# Altium schematic symbol library Reguladores.SchLib: 2 symbols
Pins are listed as number, name and electrical type; pins without a type are passive.

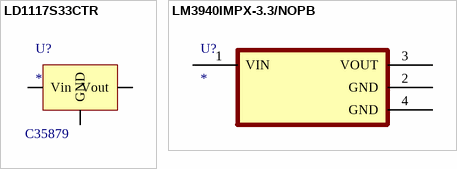
[diagram p0: symbols LD1117S33CTR to LM3940IMPX-3.3/NOPB]

## LD1117S33CTR
designator U?  LCSC: C35879
LD1117 Series 3.3 V 1300 mA Fixed Output Positive Voltage LDO Regulator- SOT-223; Manufacturer: STMicroelectronics; Manufacturer Part Number: LD1117S33CTR; Accuracy: 1%; Dropout Voltage: 1.1V; Input Bias Current: 5mA; Max Supply Voltage: 15V; Max Junction Temperature (Tj): 125°C; Max Output current: 1.3A; Max Output Voltage: 3.3V; Max Power Dissipation: 12W; Min Input Voltage: 4.75V; Number of Channels: 1; Output Current: 800mA; Voltage Tolerance: 2%; Supplier: DigiKey; Supplier Part Number: 497-1241-1-ND; RoHS: Compliant; Category: LDO Voltage Regulators; Stock: 27162; Pricing: 1=0,32, 10=0,223, 25=0,1984, 100=0,1708, 250=0,15768, 500=0,14974, 1000=0,14321 (USD); Case/Package: SOT-223; China RoHS: Compliant; Contact Plating: Tin; Height: 1.8mm; Height - Seated (Max): 1.9mm; Lead Free: Lead Free; Length: 6.5mm; Lifecycle Status: Production; Max Operating Temperature: 125°C; Min Operating Temperature: -40°C; Min Output Voltage: 3.3V; Min Supply Voltage: 3.3V; Mounting Technology: Surface Mount; Nominal Output Voltage: 3.3V; Nominal Supply Current: 5mA; Number of Circuits: 1; Number of Outputs: 1; Pins: 3; Number of Regulators: 1; Number of Terminals: 4; Output Type: Fixed; Output Voltage: 3.3V; Output Voltage Accuracy: 1%; Packaging: Tape and Reel; Polarity: Positive; Power Dissipation: 12W; Quiescent Current: 5mA; Radiation Hardening: No; REACH SVHC: Yes; Schedule B: 8542390000, 8542390000|8542390000|8542390000|8542390000|8542390000|8542390000|8542390000|8542390000|8542390000|8542390000|8542390000|8542390000|8542390000|8542390000|8542390000|8542390000|8542390000|8542390000|8542390000|8542390000|8542390000|8542390000|8542390000|85; Terminal Pitch: 2.3mm; Termination: SMD/SMT; Weight: 4.535924g; Width: 3.5mm; ComponentLink1URL: https://datasheet.octopart.com:443/LD1117S33CTR-STMicroelectronics-datasheet-21631343.pdf?src-supplier=Augswan; ComponentLink1Description: https://datasheet.octopart.com:443/LD1117S33CTR-STMicroelectronics-datasheet-21631343.pdf?src-supplier=Augswan; ComponentLink2URL: https://datasheet.octopart.com:443/LD1117S33CTR-STMicroelectronics-datasheet-12512609.pdf?src-supplier=SOS+electronic; ComponentLink2Description: https://datasheet.octopart.com:443/LD1117S33CTR-STMicroelectronics-datasheet-12512609.pdf?src-supplier=SOS+electronic; ComponentLink3URL: https://datasheet.octopart.com:443/LD1117S33CTR-STMicroelectronics-datasheet-10835789.pdf?src-supplier=Upverter; ComponentLink3Description: https://datasheet.octopart.com:443/LD1117S33CTR-STMicroelectronics-datasheet-10835789.pdf?src-supplier=Upverter; ComponentLink4URL: https://datasheet.octopart.com:443/LD1117S33CTR-STMicroelectronics-datasheet-10544930.pdf?src-supplier=Upverter; ComponentLink4Description: https://datasheet.octopart.com:443/LD1117S33CTR-STMicroelectronics-datasheet-10544930.pdf?src-supplier=Upverter; ComponentLink5URL: https://datasheet.octopart.com:443/LD1117S33CTR-STMicroelectronics-datasheet-10390305.pdf?src-supplier=Upverter; ComponentLink5Description: https://datasheet.octopart.com:443/LD1117S33CTR-STMicroelectronics-datasheet-10390305.pdf?src-supplier=Upverter; ComponentLink6URL: https://datasheet.octopart.com:443/LD1117S33CTR-STMicroelectronics-datasheet-8082140.pdf?src-supplier=Nu+Horizons; ComponentLink6Description: https://datasheet.octopart.com:443/LD1117S33CTR-STMicroelectronics-datasheet-8082140.pdf?src-supplier=Nu+Horizons; ComponentLink7URL: https://datasheet.octopart.com:443/LD1117S33CTR-STMicroelectronics-datasheet-5314031.pdf?src-supplier=Nu+Horizons; ComponentLink7Description: https://datasheet.octopart.com:443/LD1117S33CTR-STMicroelectronics-datasheet-5314031.pdf?src-supplier=Nu+Horizons; ComponentLink8URL: https://datasheet.octopart.com:443/LD1117S33CTR-STMicroelectronics-datasheet-502396.pdf?src-supplier=Nu+Horizons; ComponentLink8Description: https://datasheet.octopart.com:443/LD1117S33CTR-STMicroelectronics-datasheet-502396.pdf?src-supplier=Nu+Horizons; ComponentLink9URL: https://datasheet.octopart.com:443/LD1117S33CTR-STMicroelectronics-datasheet-109521.pdf?src-supplier=Farnell; ComponentLink9Description: https://datasheet.octopart.com:443/LD1117S33CTR-STMicroelectronics-datasheet-109521.pdf?src-supplier=Farnell; ComponentLink10URL: https://datasheet.octopart.com:443/LD1117S33CTR-STMicroelectronics-datasheet-9746.pdf?src-supplier=Newark; ComponentLink10Description: https://datasheet.octopart.com:443/LD1117S33CTR-STMicroelectronics-datasheet-9746.pdf?src-supplier=Newark; ComponentLink11URL: https://datasheet.octopart.com:443/LD1117S33CTR-STMicroelectronics-datasheet-141402766.pdf?src-supplier=Burklin+Elektronik; ComponentLink11Description: https://datasheet.octopart.com:443/LD1117S33CTR-STMicroelectronics-datasheet-141402766.pdf?src-supplier=Burklin+Elektronik; ComponentLink12URL: https://datasheet.octopart.com:443/LD1117S33CTR-STMicroelectronics-datasheet-14168930.pdf?src-supplier=iiiC; ComponentLink12Description: https://datasheet.octopart.com:443/LD1117S33CTR-STMicroelectronics-datasheet-14168930.pdf?src-supplier=iiiC; ComponentLink13URL: https://datasheet.octopart.com:443/LD1117S33CTR-STMicroelectronics-datasheet-8710537.pdf?src-supplier=element14; ComponentLink13Description: https://datasheet.octopart.com:443/LD1117S33CTR-STMicroelectronics-datasheet-8710537.pdf?src-supplier=element14; ComponentLink14URL: https://datasheet.octopart.com:443/LD1117S33CTR-STMicroelectronics-datasheet-8453752.pdf?src-supplier=element14; ComponentLink14Description: https://datasheet.octopart.com:443/LD1117S33CTR-STMicroelectronics-datasheet-8453752.pdf?src-supplier=element14; ComponentLink15URL: https://datasheet.octopart.com:443/LD1117S33CTR-STMicroelectronics-datasheet-8741331.pdf?src-supplier=Jameco; ComponentLink15Description: https://datasheet.octopart.com:443/LD1117S33CTR-STMicroelectronics-datasheet-8741331.pdf?src-supplier=Jameco; ComponentLink16URL: https://datasheet.octopart.com:443/LD1117S33CTR-STMicroelectronics-datasheet-113917.pdf?src-supplier=Sierra+IC; ComponentLink16Description: https://datasheet.octopart.com:443/LD1117S33CTR-STMicroelectronics-datasheet-113917.pdf?src-supplier=Sierra+IC
footprint regulador
pins: 1 Vin, 2 GND, 3 Vout

## LM3940IMPX-3.3/NOPB
designator U?
1-A, low-dropout voltage regulator for 5-V to 3.3-V conversion 4-SOT-223 -40 to 125; Manufacturer: Texas Instruments; Manufacturer Part Number: LM3940IMPX-3.3/NOPB; Manufacturer Lifecycle Status: ACTIVE; Accuracy: 2.5%; Dropout Voltage: 500mV; Max Supply Voltage: 7.5V; Max Junction Temperature (Tj): 125°C; Max Output current: 1A; Min Input Voltage: 4.5V; Number of Channels: 1; Output Type: Fixed; Output Voltage: 3.3V; Polarity: Positive; Quiescent Current: 15mA; Supplier: Arrow Electronics; Supplier Part Number: LM3940IMPX-3.3/NOPB; RoHS: Compliant; Category: LDO Voltage Regulators; Stock: 4000; Pricing: 2000=0,8378, 4000=0,805 (USD); Case/Package: SOT-223; Contact Plating: Tin; Height: 1.8mm; Lead Free: Lead Free; Length: 6.5mm; Lifecycle Status: Production; Max Operating Temperature: 125°C; Min Operating Temperature: -40°C; Min Supply Voltage: 4.5V; Mounting Technology: Surface Mount; Number of Outputs: 1; Pins: 4; Number of Regulators: 1; Output Current: 1A; Radiation Hardening: No; Schedule B: 8542390000, 8542390000|8542390000|8542390000|8542390000|8542390000; Thickness: 1.6mm; Width: 3.5mm; ComponentLink1URL: https://datasheet.octopart.com:443/LM3940IMPX-3.3-NOPB-Texas-Instruments-datasheet-37536452.pdf?src-supplier=Newark; ComponentLink1Description: https://datasheet.octopart.com:443/LM3940IMPX-3.3-NOPB-Texas-Instruments-datasheet-37536452.pdf?src-supplier=Newark; ComponentLink2URL: https://octopart.com:443/opatz8j6/c1?t=rvScTgIK7vzGzAkcs3Wrvb9UenW83nfYWqCYLRye1rllSdu9Beb0mrJ0jD3mxUE6L-G7r_WbA31oL6rbbcgGDwhvoCgJFhaPP2VcxwGiGkxkzw7jExuaO0qB7YjUEg7HO7wm7e8udALi6wjH3PcZfiOv8hqrGiPpD-c1dsCFFWiVgt4LsZWsN__Uwh1l8CkFPX6hFz62SNLgqesLCarricQSPLGZ_8-1w0Pi7AlFfsyeMSiSWLufX8N49_LiouBqoH5-Z8RZTzh6Rrh-S45GR5BvH6gVbYU3j4QdNB2550tcQlHMcE_JD-4k9aWhtYDm6rSzGkys3-qF4FGYb97CU4akCkkKKwscATKRo0mvSF3ub_RgSZQsh-CWTHPIweVGU4n0TA&src-supplier=Texas+Instruments; ComponentLink2Description: https://octopart.com:443/opatz8j6/c1?t=rvScTgIK7vzGzAkcs3Wrvb9UenW83nfYWqCYLRye1rllSdu9Beb0mrJ0jD3mxUE6L-G7r_WbA31oL6rbbcgGDwhvoCgJFhaPP2VcxwGiGkxkzw7jExuaO0qB7YjUEg7HO7wm7e8udALi6wjH3PcZfiOv8hqrGiPpD-c1dsCFFWiVgt4LsZWsN__Uwh1l8CkFPX6hFz62SNLgqesLCarricQSPLGZ_8-1w0Pi7AlFfsyeMSiSWLufX8N49_LiouBqoH5-Z8RZTzh6Rrh-S45GR5BvH6gVbYU3j4QdNB2550tcQlHMcE_JD-4k9aWhtYDm6rSzGkys3-qF4FGYb97CU4akCkkKKwscATKRo0mvSF3ub_RgSZQsh-CWTHPIweVGU4n0TA&src-supplier=Texas+Instruments; ComponentLink3URL: https://datasheet.octopart.com:443/LM3940IMPX-3.3-NOPB-Texas-Instruments-datasheet-32868818.pdf?src-supplier=Texas+Instruments; ComponentLink3Description: https://datasheet.octopart.com:443/LM3940IMPX-3.3-NOPB-Texas-Instruments-datasheet-32868818.pdf?src-supplier=Texas+Instruments; ComponentLink4URL: https://datasheet.octopart.com:443/LM3940IMPX-3.3-NOPB-Texas-Instruments-datasheet-14540343.pdf?src-supplier=Texas+Instruments; ComponentLink4Description: https://datasheet.octopart.com:443/LM3940IMPX-3.3-NOPB-Texas-Instruments-datasheet-14540343.pdf?src-supplier=Texas+Instruments; ComponentLink5URL: https://datasheet.octopart.com:443/LM3940IMPX-3.3/NOPB-Texas-Instruments-datasheet-12544179.pdf?src-supplier=Texas+Instruments; ComponentLink5Description: https://datasheet.octopart.com:443/LM3940IMPX-3.3/NOPB-Texas-Instruments-datasheet-12544179.pdf?src-supplier=Texas+Instruments; ComponentLink6URL: https://datasheet.octopart.com:443/LM3940IMPX-3.3/NOPB-Texas-Instruments-datasheet-10846469.pdf?src-supplier=Texas+Instruments; ComponentLink6Description: https://datasheet.octopart.com:443/LM3940IMPX-3.3/NOPB-Texas-Instruments-datasheet-10846469.pdf?src-supplier=Texas+Instruments; ComponentLink7URL: https://sigma.octopart.com:443/49253063/technical_drawing/Texas-Instruments-LM3940IMPX-3.3-NOPB.pdf?src-supplier=Texas+Instruments; ComponentLink7Description: https://sigma.octopart.com:443/49253063/technical_drawing/Texas-Instruments-LM3940IMPX-3.3-NOPB.pdf?src-supplier=Texas+Instruments; ComponentLink8URL: https://datasheet.octopart.com:443/LM3940IMPX-3.3-NOPB-Texas-Instruments-datasheet-159115208.pdf?src-supplier=Augswan; ComponentLink8Description: https://datasheet.octopart.com:443/LM3940IMPX-3.3-NOPB-Texas-Instruments-datasheet-159115208.pdf?src-supplier=Augswan; ComponentLink9URL: https://datasheet.octopart.com:443/LM3940IMPX-3.3-NOPB-Texas-Instruments-datasheet-62292511.pdf?src-supplier=Farnell; ComponentLink9Description: https://datasheet.octopart.com:443/LM3940IMPX-3.3-NOPB-Texas-Instruments-datasheet-62292511.pdf?src-supplier=Farnell; ComponentLink10URL: https://datasheet.octopart.com:443/LM3940IMPX-3.3-NOPB-Texas-Instruments-datasheet-68295779.pdf?src-supplier=Farnell; ComponentLink10Description: https://datasheet.octopart.com:443/LM3940IMPX-3.3-NOPB-Texas-Instruments-datasheet-68295779.pdf?src-supplier=Farnell; ComponentLink11URL: https://datasheet.octopart.com:443/LM3940IMPX-3.3-NOPB-Texas-Instruments-datasheet-165804071.pdf?src-supplier=LCSC; ComponentLink11Description: https://datasheet.octopart.com:443/LM3940IMPX-3.3-NOPB-Texas-Instruments-datasheet-165804071.pdf?src-supplier=LCSC; ComponentLink12URL: https://datasheet.octopart.com:443/LM3940IMPX-3.3-NOPB-Texas-Instruments-datasheet-137316104.pdf?src-supplier=Future+Electronics; ComponentLink12Description: https://datasheet.octopart.com:443/LM3940IMPX-3.3-NOPB-Texas-Instruments-datasheet-137316104.pdf?src-supplier=Future+Electronics; ComponentLink13URL: https://datasheet.octopart.com:443/LM3940IMPX-3.3/NOPB-National-Semiconductor-datasheet-128782.pdf?src-supplier=Future+Electronics; ComponentLink13Description: https://datasheet.octopart.com:443/LM3940IMPX-3.3/NOPB-National-Semiconductor-datasheet-128782.pdf?src-supplier=Future+Electronics; ComponentLink14URL: https://datasheet.octopart.com:443/LM3940IMPX-3.3-NOPB-Texas-Instruments-datasheet-8441755.pdf?src-supplier=Jameco; ComponentLink14Description: https://datasheet.octopart.com:443/LM3940IMPX-3.3-NOPB-Texas-Instruments-datasheet-8441755.pdf?src-supplier=Jameco; ComponentLink15URL: http://sigma.octopart.com:80/reach_statement/Texas-Instruments-company-64.pdf?src-supplier=Compliance+Statements; ComponentLink15Description: http://sigma.octopart.com:80/reach_statement/Texas-Instruments-company-64.pdf?src-supplier=Compliance+Statements; ComponentLink16URL: http://sigma.octopart.com:80/conflict_mineral_statement/Texas-Instruments-company-63.pdf?src-supplier=Compliance+Statements; ComponentLink16Description: http://sigma.octopart.com:80/conflict_mineral_statement/Texas-Instruments-company-63.pdf?src-supplier=Compliance+Statements
footprint regulador
pins: 1 VIN, 2 GND, 3 VOUT, 4 GND